# Altium footprint library 叉车封装库1.0.PcbLib: 41 footprints (part 1 of 3)
Each footprint in its own frame and in the unit in brackets; x right, y up, seen from the top. Pads: shape width x height; smd on the part's side, far side on the other; paste and mask are expansions set on the pad; w line width, h text height; cw(c..) or ccw(c..) is an arc to the next point about the centre after c.
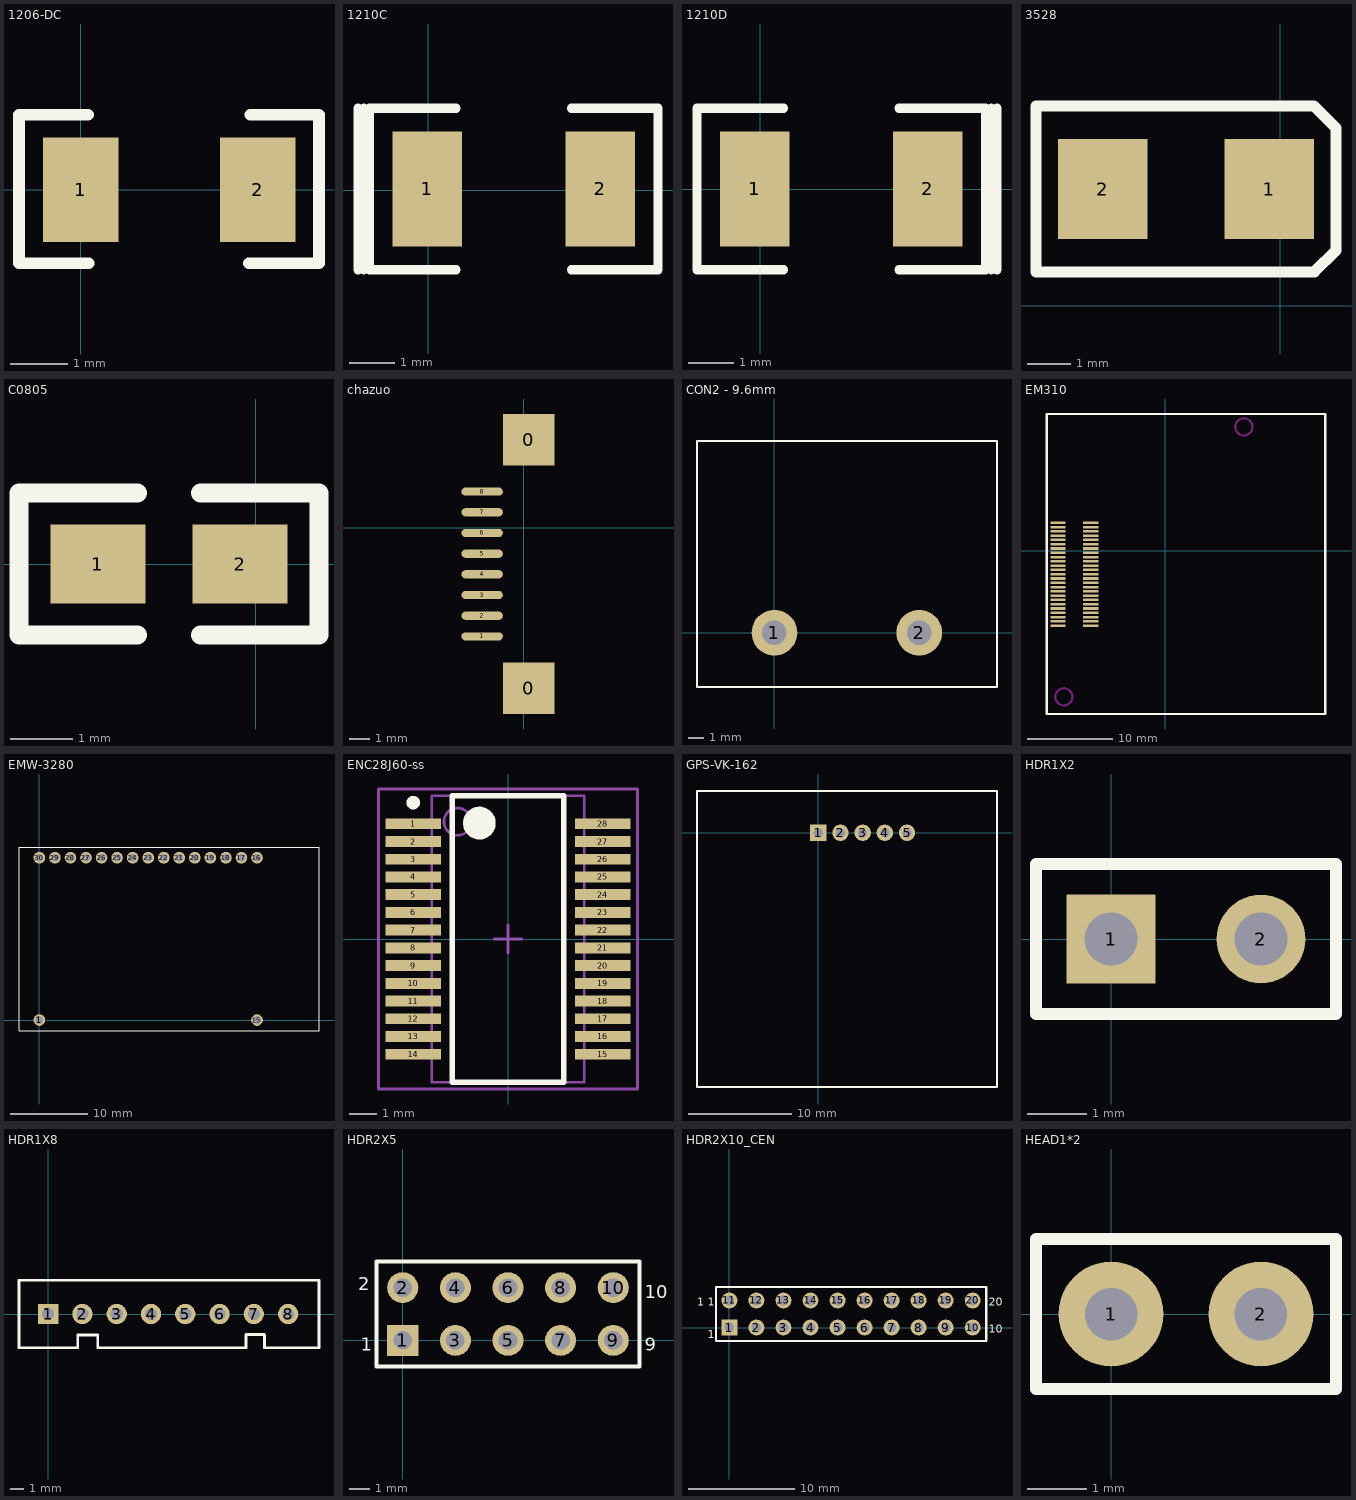
[diagram p0: the footprints below, top view; thin cyan lines are the x and y axes]

## 1206-DC [mil]
pads (2):
  rect 52x72 smd: 1(0,0) 2(122,0)
Top Overlay:
  lines w8: 4.95,51.81 -42.57,51.81 -42.57,-50.52 5.38,-50.52 ; 115.56,-50.52 164.04,-50.52 164.04,51.81 116.74,51.81

## 1210C [mil]
height 270.08
pads (2):
  rect 60x100 smd: 1(-1,1) 2(149,1)
Top Overlay:
  lines w8: -61,-69 -61,71 ; -56,-69 -56,71 ; 24,-69 -51,-69 -51,71 24,71 ; 124,-69 199,-69 199,71 124,71

## 1210D [mil]
height 39.37
pads (2):
  rect 60x100 smd: 1(-5,0.06) 2(145,0.06)
Top Overlay:
  lines w8: 20,-69.94 -55,-69.94 -55,70.06 20,70.06 ; 120,-69.94 195,-69.94 195,70.06 120,70.06 ; 200,-69.94 200,70.06 ; 205,-69.94 205,70.06

## 3528 [mil]
pads (2):
  rect 80.63x90 smd: 1(-10,105) 2(-160,105)
Top Overlay:
  lines w10: -220,30.39 30.39,30.39 50,50 50,160 30,180 -220,180 -220,30.39

## C0805 [mil]
height 39.37
pads (2):
  rect 60x50 smd: 1(-100,0) 2(-10,0)
Top Overlay:
  lines w12: -75,-45 -150,-45 -150,45 -75,45 ; -35,-45 40,-45 40,45 -35,45

## chazuo [mm]
pads (10):
  rect 2.5x2.5 smd: 0(0.25,-7.75) 0(0.25,4.25)
  oval 2x0.4 smd: 1(-2,-5.25) 2(-2,-4.25) 3(-2,-3.25) 4(-2,-2.25) 5(-2,-1.25) 6(-2,-0.25) 7(-2,0.75) 8(-2,1.75)

## CON2 - 9.6mm [mm]
pads (2):
  round 3 hole 1.6: 1(0,0) 2(9.5,0)
Top Overlay:
  lines w0.127: -5.08,-3.556 -5.08,12.573 14.605,12.573 14.605,-3.556 -5.08,-3.556

## EM310 [mm]
height 6.86
pads (50):
  rect 1.8x0.3 smd: 1(-8.712,3.254) 2(-8.712,2.754) 3(-8.712,2.254) 4(-8.712,1.754) 5(-8.712,1.254) 6(-8.712,0.754) 7(-8.712,0.254) 8(-8.712,-0.246) 9(-8.712,-0.746) 10(-8.712,-1.246) 11(-8.712,-1.746) 12(-8.712,-2.246) 13(-8.712,-2.746) 14(-8.712,-3.246) 15(-8.712,-3.746) 16(-8.712,-4.246) 17(-8.712,-4.746) 18(-8.712,-5.246) 19(-8.712,-5.746) 20(-8.712,-6.246) 21(-8.712,-6.746) 22(-8.712,-7.246) 23(-8.712,-7.746) 24(-8.712,-8.246) 25(-8.712,-8.746) 26(-12.512,-8.746) 27(-12.512,-8.246) 28(-12.512,-7.746) 29(-12.512,-7.246) 30(-12.512,-6.746) 31(-12.512,-6.246) 32(-12.512,-5.746) 33(-12.512,-5.246) 34(-12.512,-4.746) 35(-12.512,-4.246) 36(-12.512,-3.746) 37(-12.512,-3.246) 38(-12.512,-2.746) 39(-12.512,-2.246) 40(-12.512,-1.746) 41(-12.512,-1.246) 42(-12.512,-0.746) 43(-12.512,-0.246) 44(-12.512,0.254) 45(-12.512,0.754) 46(-12.512,1.254) 47(-12.512,1.754) 48(-12.512,2.254) 49(-12.512,2.754) 50(-12.512,3.254)
Top Overlay:
  lines w0.254: -13.832,-19.056 -13.832,15.944 18.668,15.944 18.668,-19.056 -13.832,-19.056
Keep-Out Layer:
  circle w0.254: c9.168,14.444 r1
  circle w0.254: c-11.832,-17.056 r1

## EMW-3280 [mm]
height 1
pads (17):
  round 1.5 hole 1: 1(0,0) 15(28,0) 16(28,20.88) 17(26,20.88) 18(24,20.88) 19(22,20.88) 20(20,20.88) 21(18,20.88) 22(16,20.88) 23(14,20.88) 24(12,20.88) 25(10,20.88) 26(8,20.88) 27(6,20.88) 28(4,20.88) 29(2,20.88) 30(0,20.88)
Top Overlay:
  lines w0.127: -2.62,-1.37 35.98,-1.397 35.98,22.25 -2.62,22.25 -2.62,-1.37

## ENC28J60-ss [mm] "SOP, 28-Leads, Body 10.5x5.6mm (max), Pitch 0"
height 2
pads (28):
  rect 2.05x0.4 smd: 1(-3.475,4.225) 2(-3.475,3.575) 3(-3.475,2.925) 4(-3.475,2.275) 5(-3.475,1.625) 6(-3.475,0.975) 7(-3.475,0.325) 8(-3.475,-0.325) 9(-3.475,-0.975) 10(-3.475,-1.625) 11(-3.475,-2.275) 12(-3.475,-2.925) 13(-3.475,-3.575) 14(-3.475,-4.225) 15(3.475,-4.225) 16(3.475,-3.575) 17(3.475,-2.925) 18(3.475,-2.275) 19(3.475,-1.625) 20(3.475,-0.975) 21(3.475,-0.325) 22(3.475,0.325) 23(3.475,0.975) 24(3.475,1.625) 25(3.475,2.275) 26(3.475,2.925) 27(3.475,3.575) 28(3.475,4.225)
Top Overlay:
  circle w0.6: c-1.05,4.25 r0.3
  circle w0.25: c-3.475,5 r0.125
  lines w0.2: -2.05,-5.25 2.05,-5.25 2.05,5.25 -2.05,5.25 -2.05,-5.25
Mechanical 13:
  circle w0.1: c-1.85,4.3 r0.5
  lines w0.1: -2.8,-5.25 2.8,-5.25 2.8,5.25 -2.8,5.25 -2.8,-5.25
Mechanical 15:
  lines w0.1: -0.5,0 0.5,0 ; 0,-0.5 0,0.5 ; -4.75,-5.5 4.75,-5.5 4.75,5.5 -4.75,5.5 -4.75,-5.5
3D body: height 2, standoff 0.09, extent -2.8,-5.25 2.8,5.25

## GPS-VK-162 [mm]
pads (5):
  rect 1.6x1.6 hole 0.889: 1(0,0)
  round 1.6 hole 0.889: 2(2.159,0) 3(4.318,0) 4(6.477,0) 5(8.636,0)
Top Overlay:
  lines w0.2: -11.811,-24.765 -11.811,4.064 17.399,4.064 17.399,-24.765 -11.811,-24.765

## HDR1X2 [mm] "Connector; Header; 2 Positi"
pads (2):
  rect 1.5x1.5 hole 0.9: 1(0,0)
  round 1.5 hole 0.9: 2(2.54,0)
Top Overlay:
  lines w0.2: -1.27,-1.27 -1.27,1.27 3.81,1.27 3.81,-1.27 -1.27,-1.27

## HDR1X8 [mm] "Connector; Header; 9 Position"
pads (8):
  rect 1.5x1.5 hole 0.9: 1(0,0)
  round 1.5 hole 0.9: 2(2.54,0) 3(5.08,0) 4(7.62,0) 5(10.16,0) 6(12.7,0) 7(15.24,0) 8(17.78,0)
Top Overlay:
  lines w0.2: 2.184,-1.651 2.184,-2.5 -2.159,-2.5 -2.159,2.5 20.066,2.5 20.066,-2.5 16.027,-2.5 16.027,-1.549 ; 2.184,-1.549 3.683,-1.549 3.683,-2.5 14.656,-2.5 14.656,-1.524 16.002,-1.524

## HDR2X5 [mm] "Connector; Header; 5x2 Position"
pads (10):
  rect 1.5x1.5 hole 0.9: 1(0,0)
  round 1.5 hole 0.9: 2(0,2.54) 3(2.54,0) 4(2.54,2.54) 5(5.08,0) 6(5.08,2.54) 7(7.62,0) 8(7.62,2.54) 9(10.16,0) 10(10.16,2.54)
Top Overlay:
  lines w0.2: -1.27,-1.27 -1.27,3.81 11.43,3.81 11.43,-1.27 -1.27,-1.27
  text "2" at -2.159,2.413 h0.64
  text "1" at -2.032,-0.508 h0.64
  text "9" at 11.684,-0.508 h0.64
  text "10" at 11.684,2.032 h0.64

## HDR2X10_CEN [mm] "Connector; Header; 10x2 Position"
pads (20):
  rect 1.5x1.5 hole 0.9: 1(0,0)
  round 1.5 hole 0.9: 2(2.54,0) 3(5.08,0) 4(7.62,0) 5(10.16,0) 6(12.7,0) 7(15.24,0) 8(17.78,0) 9(20.32,0) 10(22.86,0) 11(0,2.54) 12(2.54,2.54) 13(5.08,2.54) 14(7.62,2.54) 15(10.16,2.54) 16(12.7,2.54) 17(15.24,2.54) 18(17.78,2.54) 19(20.32,2.54) 20(22.86,2.54)
Top Overlay:
  lines w0.2: -1.27,-1.27 24.13,-1.27 24.13,3.81 -1.27,3.81 -1.27,-1.27
  text "1" at -2.032,-1.016 h0.76
  text "1" at -3.048,2.032 h0.76
  text "1" at -2.032,2.032 h0.76
  text "10" at 24.384,-0.508 h0.76
  text "20" at 24.384,2.032 h0.76

## HEAD1*2 [mil]
height 393.7
pads (2):
  round 70 hole 35: 1(0,0) 2(100,0)
Top Overlay:
  lines w7.87: -50,-50 -50,50 150,50 150,-50 -50,-50